# Altium footprint library Common.PcbLib: 69 footprints (part 1 of 5)
Each footprint in its own frame and in the unit in brackets; x right, y up, seen from the top. Pads: shape width x height; smd on the part's side, far side on the other; paste and mask are expansions set on the pad; w line width, h text height; cw(c..) or ccw(c..) is an arc to the next point about the centre after c.
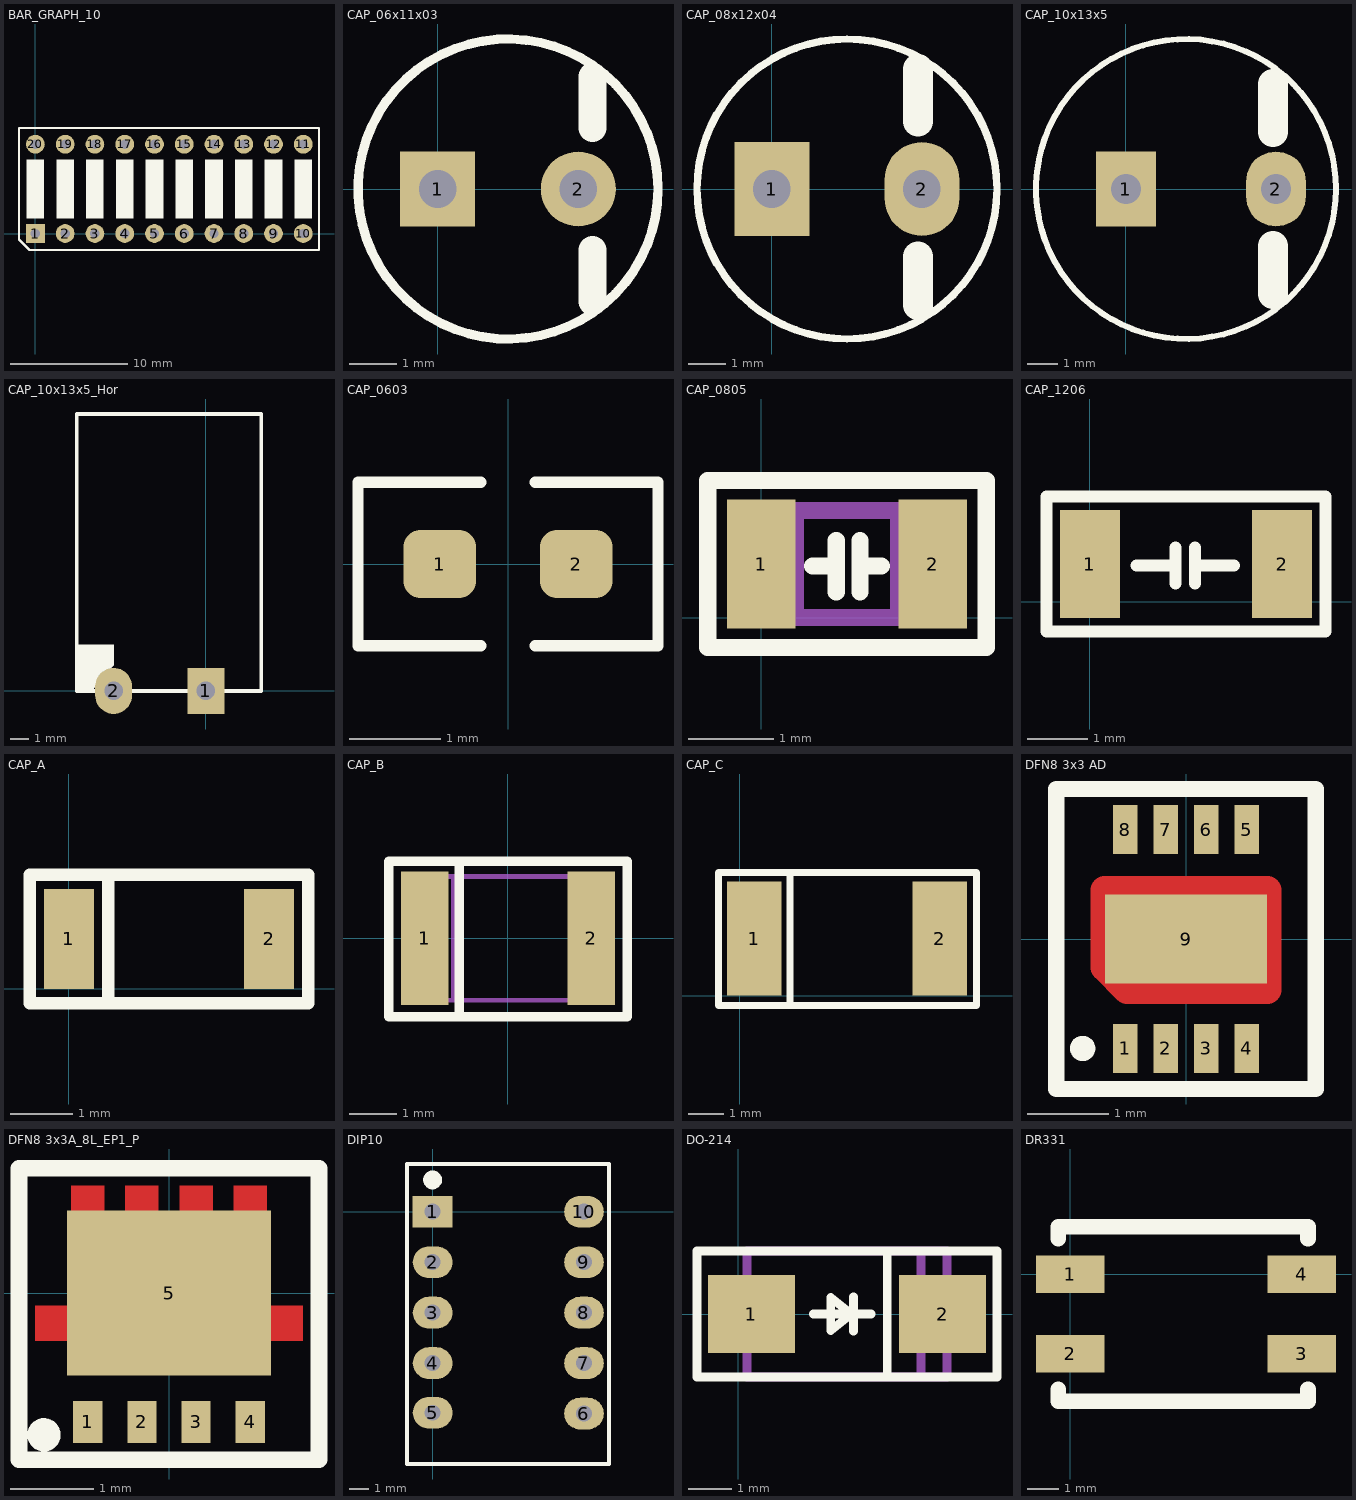
[diagram p0: the footprints below, top view; thin cyan lines are the x and y axes]

## BAR_GRAPH_10 [mm]
height 7
pads (20):
  rect 1.6x1.6 hole 0.8: 1(0,0)
  round 1.6 hole 0.8: 2(2.54,0) 3(5.08,0) 4(7.62,0) 5(10.16,0) 6(12.7,0) 7(15.24,0) 8(17.78,0) 9(20.32,0) 10(22.86,0) 11(22.86,7.62) 12(20.32,7.62) 13(17.78,7.62) 14(15.24,7.62) 15(12.7,7.62) 16(10.16,7.62) 17(7.62,7.62) 18(5.08,7.62) 19(2.54,7.62) 20(0,7.62)
Top Overlay:
  rectangle: 19.57,1.3 21.07,6.3
  rectangle: 17.03,1.3 18.53,6.3
  rectangle: 14.49,1.3 15.99,6.3
  rectangle: 11.95,1.3 13.45,6.3
  rectangle: 9.41,1.3 10.91,6.3
  rectangle: 6.87,1.3 8.37,6.3
  rectangle: 4.33,1.3 5.83,6.3
  rectangle: 1.79,1.3 3.29,6.3
  rectangle: 22.11,1.3 23.61,6.3
  rectangle: -0.75,1.3 0.75,6.3
  lines w0.2: -1.4,-0.5 -0.5,-1.4 24.2,-1.4 24.2,9 -1.4,9 -1.4,-0.5
3D body: height 6.8, standoff -7, extent -1.3,-1.3 24.1,8.86

## CAP_06x11x03 [mm] "Capacitor"
height 11
pads (2):
  rect 1.6x1.6 hole 0.8: 1(0,0)
  round 1.6 hole 0.8: 2(3,0)
Top Overlay:
  circle w0.2: c1.5,0 r3.2
  lines w0.6: 3.3,-2.4 3.3,-1.3 ; 3.3,1.3 3.3,2.4
3D body: height 11, standoff 0, extent -1.694,-3.198 4.7,3.199

## CAP_08x12x04 [mm] "Capacitor"
height 12
pads (2):
  rect 2x2.5 hole 1: 1(0,0)
  oval 2x2.5 hole 1: 2(4,0)
Top Overlay:
  circle w0.2: c2,0 r4
  lines w0.8: 3.9,-3.1 3.9,-1.8 ; 3.9,1.8 3.9,3.2
3D body: height 12, standoff 0, extent -1.968,-3.992 6,3.992

## CAP_10x13x5 [mm] "Capacitor"
height 13
pads (2):
  rect 2x2.5 hole 1: 1(0,0)
  oval 2x2.5 hole 1: 2(5,0)
Top Overlay:
  circle w0.2: c2,0 r5
  lines w1: 4.9,-3.5 4.9,-1.9 ; 4.9,1.9 4.9,3.5
3D body: height 13, standoff 0, extent -3.01,-5.01 7.01,5.01

## CAP_10x13x5_Hor [mm] "Capacitor"
height 10
pads (2):
  rect 2x2.5 hole 1: 1(0,0)
  oval 2x2.5 hole 1: 2(-5,0)
Top Overlay:
  region: -5,2.5 -5,1.4 -5.5,0.9 -6.1,0.1 -6.9,0.1 -6.9,2.5
  lines w0.2: -7,0 -7,15 3,15 3,0 -7,0
3D body: height 10, standoff 0, extent -7.1,-0.1 3.1,15.1

## CAP_0603 [mm]
pads (2):
  rrect50% 0.8x0.75 smd: 1(-0.75,0) 2(0.75,0)
Top Overlay:
  lines w0.125: -0.3,-0.9 -1.65,-0.9 -1.65,0.9 -0.3,0.9 ; 0.3,-0.9 1.65,-0.9 1.65,0.9 0.3,0.9
3D body: height 0.3, standoff 0, extent -0.8,-0.4 0.8,0.4

## CAP_0805 [mm] "SMD Capacitor 0805"
height 1.3
pads (2):
  rect 0.8x1.5 smd: 1(0,0.625) 2(2,0.625)
Top Overlay:
  lines w0.2: 0.6,0.6 0.85,0.6 ; 0.875,0.3 0.875,0.9 ; 1.15,0.3 1.15,0.9 ; 1.15,0.6 1.4,0.6 ; -0.625,-0.35 2.625,-0.35 2.625,1.6 -0.625,1.6 -0.625,-0.35
Mechanical 1:
  lines w0.2: 0.4,0 0.4,1.25 ; 1.6,0 1.6,1.25 ; 0,0 2,0 2,1.25 0,1.25 0,0
Mechanical 15:
  lines w0.1: -0.625,-0.35 2.625,-0.35 2.625,1.6 -0.625,1.6 -0.625,-0.35
3D body: height 1.3, standoff 0, extent 0.001,0.001 0.399,1.249
3D body: height 1.3, standoff 0, extent 0.401,0.001 1.599,1.249
3D body: height 1.3, standoff 0, extent 1.601,0.001 1.999,1.249

## CAP_1206 [mm] "SMD Capacitor 1206"
height 1.5
pads (2):
  rect 1x1.8 smd: 1(0,0.625) 2(3.2,0.625)
Top Overlay:
  lines w0.2: 0.775,0.6 1.425,0.6 ; 1.425,0.3 1.425,0.9 ; 1.75,0.3 1.75,0.9 ; 1.75,0.6 2.4,0.6 ; -0.725,-0.5 3.925,-0.5 3.925,1.75 -0.725,1.75 -0.725,-0.5

## CAP_A [mm] "SMD Tantalium size A"
height 1.6
pads (2):
  rect 0.8x1.6 smd: 1(0,0.8) 2(3.2,0.8)
Top Overlay:
  lines w0.2: 0.625,-0.175 0.625,1.775 ; -0.625,-0.225 3.825,-0.225 3.825,1.825 -0.625,1.825 -0.625,-0.225

## CAP_B [mm] "SMD Tantalium size B"
height 3
pads (2):
  rect 1x2.8 smd: 1(-1.75,0) 2(1.75,0)
Top Overlay:
  lines w0.2: -1.025,-1.6 -1.025,1.55 ; -2.5,-1.65 2.5,-1.65 2.5,1.625 -2.5,1.625 -2.5,-1.65
Mechanical 1:
  lines w0.1: -1.15,-1.3 -1.15,1.3 ; -2.15,-1.3 2.15,-1.3 2.15,1.3 -2.15,1.3 -2.15,-1.3
3D body: height 3, standoff 0, extent -2.149,-1.299 -1.151,1.299
3D body: height 3, standoff 0, extent -1.149,-1.299 2.149,1.299

## CAP_C [mm] "SMD Tantalium size C"
height 2.5
pads (2):
  rect 1.524x3.2 smd: 1(0.4,1.6) 2(5.6,1.6)
Top Overlay:
  lines w0.2: 1.4,-0.275 1.4,3.45 ; -0.6,-0.275 6.625,-0.275 6.625,3.45 -0.6,3.45 -0.6,-0.275

## DFN8 3x3 AD [mm]
height 0.8
pads (9):
  rect 0.3x0.6 smd: 1(-0.75,-1.35) 2(-0.25,-1.35) 3(0.25,-1.35) 4(0.75,-1.35) 5(0.75,1.35) 6(0.25,1.35) 7(-0.25,1.35) 8(-0.75,1.35)
  rect 2x1.1 smd: 9(0,0)
Top Layer:
  lines w0.35: -1,-0.35 -1,0.6 1,0.6 1,-0.625 -0.725,-0.625 -1,-0.35
Top Overlay:
  circle w0.2: c-1.275,-1.35 r0.056
  lines w0.2: -1.6,-1.85 1.6,-1.85 1.6,1.85 -1.6,1.85 -1.6,-1.85
3D body: height 0.8, standoff 0, extent -1.5,-1.51 1.5,1.51

## DFN8 3x3A_8L_EP1_P [mm] "AON2703"
height 0.9
pads (5):
  rect 0.35x0.5 smd: 1(-0.975,-1.545) 2(-0.325,-1.545) 3(0.325,-1.545) 4(0.975,-1.545)
  rect 2.45x1.98 smd: 5(0,0)
Top Layer:
  rectangle: -0.525,0.98 -0.125,1.29
  rectangle: 0.125,0.98 0.525,1.29
  rectangle: -1.175,0.98 -0.775,1.29
  rectangle: 0.775,0.98 1.175,1.29
  rectangle: -1.605,-0.575 -1.22,-0.145
  rectangle: 1.22,-0.575 1.605,-0.145
Top Overlay:
  circle w0.2: c-1.5,-1.7 r0.1
  lines w0.2: -1.8,-2 1.8,-2 1.8,1.5 -1.8,1.5 -1.8,-2
3D body: height 0.8, standoff 0, extent -1.513,-1.758 1.487,1.262

## DIP10 [mm]
height 7.2
pads (10):
  rect 2x1.6 hole 0.8: 1(0,0)
  oval 2x1.6 hole 0.8: 2(0,-2.54) 3(0,-5.08) 4(0,-7.62) 5(0,-10.12) 6(7.62,-10.16) 7(7.62,-7.62) 8(7.62,-5.08) 9(7.62,-2.54) 10(7.62,0)
Top Overlay:
  circle w0.5: c0,1.6 r0.224
  lines w0.2: -1.3,-12.7 -1.3,2.4 8.89,2.4 8.89,-12.7 -1.3,-12.7

## DO-214 [mm]
height 2.5
pads (2):
  rect 2x1.8 smd: 1(0.3,0) 2(4.7,0)
Top Overlay:
  lines w0.1: 3.425,1.425 3.525,1.425
  lines w0.2: 1.725,0 2.35,0 ; 2.65,-0.4 2.65,0.4 ; 3.05,0 2.6,0 ; 3.425,-1.45 3.425,1.425 ; 2.6,0 2.125,0.38 2.125,-0.38 2.6,0 ; -0.95,-1.45 -0.95,1.45 5.95,1.45 5.95,-1.45 -0.95,-1.45
Mechanical 1:
  lines w0.2: 0.2,-0.775 0.2,-0.8 -0.15,-0.8 -0.15,0.8 0.2,0.8 ; 4.2,-1.45 4.2,1.45 ; 4.8,-0.825 4.8,-0.8 5.15,-0.8 5.15,0.8 4.8,0.8 ; 0.2,-1.45 4.8,-1.45 4.8,1.45 0.2,1.45 0.2,-1.45
3D body: height 1.25, standoff 0, extent -0.149,-0.799 0.199,0.799
3D body: height 1.25, standoff 0, extent 4.801,-0.799 5.149,0.799
3D body: height 2.5, standoff 0, extent 4.201,-1.449 4.799,1.449
3D body: height 2.5, standoff 0, extent 0.201,-1.449 4.199,1.449

## DR331 [mm]
pads (4):
  rect 2.2x1.2 smd: 1(0,0) 2(0,-2.54) 3(7.417,-2.54) 4(7.417,0)
Top Overlay:
  lines w0.5: -0.381,-3.683 -0.381,-4.064 7.62,-4.064 7.62,-3.683 ; -0.381,1.143 -0.381,1.524 7.62,1.524 7.62,1.143
3D body: height 4.95, standoff -0.05, extent -0.868,-3.952 8.132,1.448